# Altium footprint library Diode_SMD.PcbLib: 11 footprints
Each footprint in its own frame and in the unit in brackets; x right, y up, seen from the top. Pads: shape width x height; smd on the part's side, far side on the other; paste and mask are expansions set on the pad; w line width, h text height; cw(c..) or ccw(c..) is an arc to the next point about the centre after c.
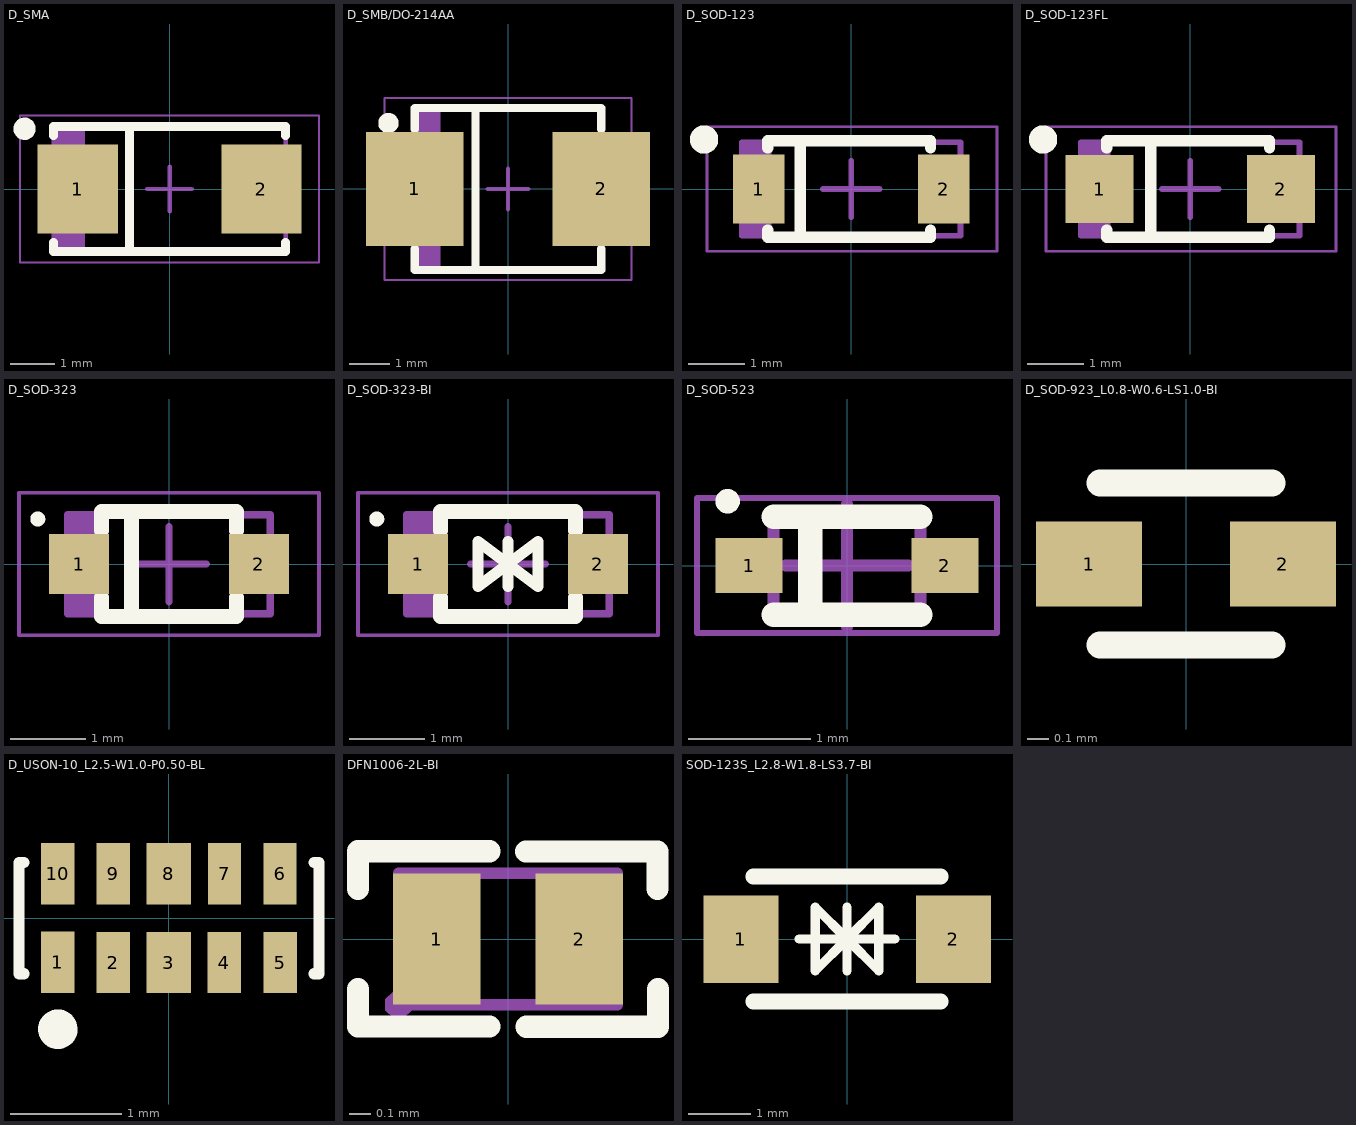
[diagram p0: the footprints below, top view; thin cyan lines are the x and y axes]

## D_SMA [mm] "Molded Diode, 2-Leads, Body 5.00x2.60mm, IPC Medium Density"
height 2
pads (2):
  rect 1.8x2 smd: 1(-2.06,0) 2(2.06,0)
Top Overlay:
  circle w0.25: c-3.25,1.35 r0.125
  lines w0.2: -2.6,-1.2 -2.6,-1.4 2.6,-1.4 2.6,-1.2 ; -2.6,1.2 -2.6,1.4 2.6,1.4 2.6,1.2 ; -0.9,-1.4 -0.9,1.4
Mechanical 13:
  rectangle: -2.6,-1.4 -1.901,1.4
  lines w0.1: -2.6,-1.4 2.6,-1.4 2.6,1.4 -2.6,1.4 -2.6,-1.4
Mechanical 15:
  lines w0.05: -3.35,-1.65 3.35,-1.65 3.35,1.65 -3.35,1.65 -3.35,-1.65
  lines w0.1: -0.5,0 0.5,0 ; 0,-0.5 0,0.5
3D body "DIOM5026X20N.step": height 2, standoff 0, extent -2.82,-1.4 2.82,1.4

## D_SMB/DO-214AA [mm] "Molded Diode, 2-Leads, Body 4.31x3.62mm, IPC Medium Density"
height 2.5
pads (2):
  rect 2.4x2.8 smd: 1(-2.3,0) 2(2.3,0)
Top Overlay:
  circle w0.25: c-2.95,1.625 r0.125
  lines w0.2: -2.3,-1.475 -2.3,-2 2.3,-2 2.3,-1.475 ; -2.3,1.475 -2.3,2 2.3,2 2.3,1.475 ; -0.8,-2 -0.8,2
Mechanical 13:
  rectangle: -2.285,-1.97 -1.67,1.97
  lines w0.1: -2.285,-1.97 2.285,-1.97 2.285,1.97 -2.285,1.97 -2.285,-1.97
Mechanical 15:
  lines w0.05: -3.05,-2.25 3.05,-2.25 3.05,2.25 -3.05,2.25 -3.05,-2.25
  lines w0.1: -0.5,0 0.5,0 ; 0,-0.5 0,0.5
3D body "DIOM4336X25N.step": height 2.5, standoff 0, extent -2.505,-1.97 2.505,1.97

## D_SOD-123 [mm] "Molded Diode, 2-Leads, Body 3.71x1.60mm, IPC Medium Density"
height 1.35
pads (2):
  rect 0.91x1.22 smd: 1(-1.637,0) 2(1.637,0)
Top Overlay:
  circle w0.25: c-2.6,0.875 r0.125
  lines w0.2: -1.475,-0.725 -1.475,-0.85 1.4,-0.85 1.4,-0.725 ; -1.475,0.725 -1.475,0.85 1.4,0.85 1.4,0.725 ; -0.9,-0.85 -0.9,0.85
Mechanical 13:
  rectangle: -1.93,-0.825 -1.411,0.825
  lines w0.1: -1.93,-0.825 1.93,-0.825 1.93,0.825 -1.93,0.825 -1.93,-0.825
Mechanical 15:
  lines w0.05: -2.55,-1.1 -2.55,1.1 2.575,1.1 2.575,-1.1 -2.55,-1.1
  lines w0.1: -0.5,0 0.5,0 ; 0,-0.5 0,0.5
3D body "User Library-SOD3716X14.STEP": height 1.35, standoff 0, extent -1.85,-0.775 1.85,0.775

## D_SOD-123FL [mm] "Molded Diode, 2-Leads, Body 3.71x1.60mm, IPC Medium Density"
height 1.35
pads (2):
  rect 1.2x1.2 smd: 1(-1.6,0) 2(1.6,0)
Top Overlay:
  circle w0.25: c-2.6,0.875 r0.125
  lines w0.2: -1.475,-0.725 -1.475,-0.85 1.4,-0.85 1.4,-0.725 ; -1.475,0.725 -1.475,0.85 1.4,0.85 1.4,0.725 ; -0.7,-0.85 -0.7,0.85
Mechanical 13:
  rectangle: -1.93,-0.825 -1.411,0.825
  lines w0.1: -1.93,-0.825 1.93,-0.825 1.93,0.825 -1.93,0.825 -1.93,-0.825
Mechanical 15:
  lines w0.05: -2.55,-1.1 -2.55,1.1 2.575,1.1 2.575,-1.1 -2.55,-1.1
  lines w0.1: -0.5,0 0.5,0 ; 0,-0.5 0,0.5
3D body "User Library-SOD3716X14.STEP": height 1.35, standoff 0, extent -1.85,-0.775 1.85,0.775

## D_SOD-323 [mm] "Molded Diode, 2-Leads, Body 2.65x1.30mm, IPC Medium Density"
height 0.9
pads (2):
  rect 0.8x0.8 smd: 1(-1.2,0) 2(1.2,0)
Top Overlay:
  circle w0.1: c-1.75,0.6 r0.05
  lines w0.2: -0.9,-0.45 -0.9,-0.7 0.9,-0.7 0.9,-0.45 ; -0.9,0.45 -0.9,0.7 0.9,0.7 0.9,0.45 ; -0.5,-0.6 -0.5,0.7
Mechanical 13:
  rectangle: -1.35,-0.66 -0.987,0.66
  lines w0.1: -1.35,-0.66 -1.35,0.66 1.35,0.66 1.35,-0.66 -1.35,-0.66
Mechanical 15:
  lines w0.05: -2,-0.95 -2,0.95 2,0.95 2,-0.95 -2,-0.95
  lines w0.1: -0.5,0 0.5,0 ; 0,-0.5 0,0.5
3D body "User Library-SOD-323.STEP": height 1.1, standoff 0, extent -1.3,-0.675 1.3,0.675

## D_SOD-323-BI [mm] "Molded Diode, 2-Leads, Body 2.65x1.30mm, IPC Medium Density"
height 0.9
pads (2):
  rect 0.8x0.8 smd: 1(-1.2,0) 2(1.2,0)
Top Overlay:
  circle w0.1: c-1.75,0.6 r0.05
  lines w0.152: 0,-0.3 0,0.3 ; -0.4,-0.3 -0.4,0.3 0.4,-0.3 0.4,0.3 -0.4,-0.3
  lines w0.2: -0.9,-0.45 -0.9,-0.7 0.9,-0.7 0.9,-0.45 ; -0.9,0.45 -0.9,0.7 0.9,0.7 0.9,0.45
Mechanical 13:
  rectangle: -1.35,-0.66 -0.987,0.66
  lines w0.1: -1.35,-0.66 1.35,-0.66 1.35,0.66 -1.35,0.66 -1.35,-0.66
Mechanical 15:
  lines w0.05: -2,-0.95 2,-0.95 2,0.95 -2,0.95 -2,-0.95
  lines w0.1: -0.5,0 0.5,0 ; 0,-0.5 0,0.5
3D body "User Library-SOD-323.STEP": height 1.1, standoff 0, extent -1.3,-0.675 1.3,0.675

## D_SOD-523 [mm] "SODFL, 2-Leads, Body 0.80x1.60mm, IPC Medium Density"
height 0.6
pads (2):
  rect 0.55x0.45 smd: 1(-0.8,0) 2(0.8,0)
Top Overlay:
  circle w0.1: c-0.975,0.525 r0.05
  lines w0.2: -0.6,-0.4 0.6,-0.4 ; -0.6,0.4 0.6,0.4 ; -0.3,-0.4 -0.3,0.4
Mechanical 13:
  lines w0.1: -0.6,-0.4 0.6,-0.4 0.6,0.4 -0.6,0.4 -0.6,-0.4
Mechanical 15:
  lines w0.05: -1.225,-0.55 1.225,-0.55 1.225,0.55 -1.225,0.55 -1.225,-0.55
  lines w0.1: -0.5,0 0.5,0 ; 0,-0.5 0,0.5
3D body "SODFL160X60-2N.step": height 0.6, standoff 0, extent -0.8,-0.4 0.8,0.4

## D_SOD-923_L0.8-W0.6-LS1.0-BI [mil]
pads (2):
  rect 19.68x15.74 smd: 1(-18,0) 2(18,0)
Top Overlay:
  lines w5: -16,-15 16,-15 ; -16,15 16,15

## D_USON-10_L2.5-W1.0-P0.50-BL [mm]
pads (10):
  rect 0.3x0.55 smd: 1(-1.001,-0.398) 2(-0.501,-0.4) 4(0.499,-0.4) 5(1.001,-0.4) 6(0.999,0.4) 7(0.5,0.4) 9(-0.5,0.4) 10(-1.001,0.4)
  rect 0.4x0.55 smd: 3(-0.002,-0.4) 8(-0.001,0.4)
Top Overlay:
  lines w0.102: -1.306,-0.5 -1.35,-0.5 -1.35,0.5 -1.306,0.5 ; 1.304,0.5 1.35,0.5 1.35,-0.5 1.305,-0.5
  lines w0.254: -0.955,-0.977 ccw(c-1,-1) -0.949,-1
3D body "3D_PCB1_2022-04-17.stp": height 0.61, standoff 0, extent -1.25,-0.51 1.25,0.51

## DFN1006-2L-BI [mm]
pads (2):
  rect 0.4x0.6 smd mask+0.051: 1(-0.325,0) 2(0.325,0)
Top Overlay:
  lines w0.102: -0.685,-0.23 -0.685,-0.4 -0.085,-0.4 ; -0.685,0.23 -0.685,0.4 -0.085,0.4 ; 0.082,0.4 0.682,0.4 0.682,0.23 ; 0.085,-0.4 0.685,-0.4 0.685,-0.23
Mechanical 15:
  region: 0.225,0.254 0.475,0.254 0.475,-0.254 0.225,-0.254
  region: -0.475,0.254 -0.225,0.254 -0.225,-0.254 -0.475,-0.254
  region: -0.44,-0.3 -0.44,-0.275 -0.475,-0.24 -0.525,-0.24 -0.56,-0.275 -0.56,-0.3 -0.56,-0.325 -0.525,-0.36 -0.475,-0.36 -0.44,-0.325 -0.44,-0.3
  lines w0.051: -0.5,-0.3 -0.5,0.3 0.5,0.3 0.5,-0.3 -0.5,-0.3
3D body "DFN65P100X45-2M.step": height 0.45, standoff 0, extent -0.525,-0.325 0.525,0.325

## SOD-123S_L2.8-W1.8-LS3.7-BI [mm]
pads (2):
  rect 1.2x1.4 smd: 1(-1.7,0) 2(1.7,0)
Top Overlay:
  lines w0.15: -0.762,0 0.762,0 ; 0,-0.508 0,0.508 ; 0,-0.254 0,0.254 ; 0,0 -0.508,0.508 -0.508,-0.508 0,0 ; 0,0 0.508,-0.508 0.508,0.508 0,0
  lines w0.254: -1.5,-1 1.5,-1 ; -1.5,1 1.5,1
3D body "3D_PCB1_2022-04-16.stp": height 0.98, standoff 0, extent -1.85,-0.9 1.85,0.9